# EAGLE library part MIKRO_SD_CARD (library Parts_for_Marcus)
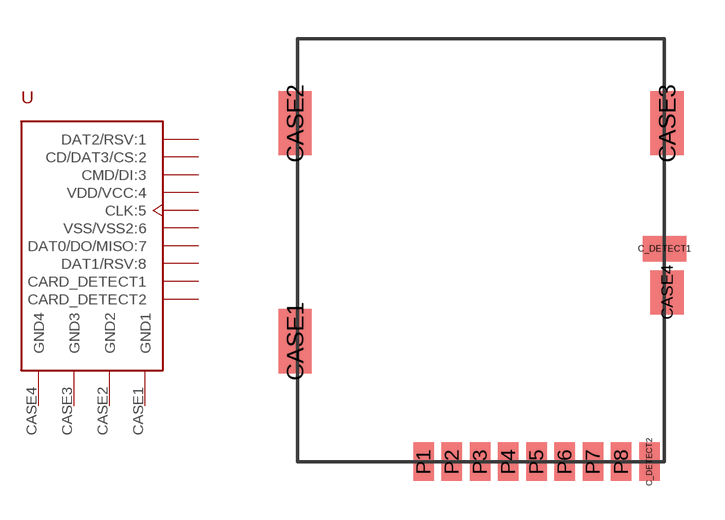
[diagram p0: symbol with the pads of MIKRO_SD_CARD_HOLDER; footprint MIKRO_SD_CARD_HOLDER]

Designator prefix -

## MIKRO_SD_CARD  [MIKRO_SD_CARD_HOLDER]
C_DETECT1  CARD_DETECT1
C_DETECT2  CARD_DETECT2
CASE1  GND1
CASE2  GND2
CASE3  GND3
CASE4  GND4
P1  DAT2/RSV:1
P2  CD/DAT3/CS:2
P3  CMD/DI:3  pwr
P4  VDD/VCC:4  pwr
P5  CLK:5
P6  VSS/VSS2:6  pwr
P7  DAT0/DO/MISO:7
P8  DAT1/RSV:8

## Footprint MIKRO_SD_CARD_HOLDER (pad centres in mm)
smd 1.7 x 1: C_DETECT1 14.3,8.3
smd 0.8 x 1.5: C_DETECT2 13.71,0; P1 4.91,0; P2 6.01,0; P3 7.11,0; P4 8.21,0; P5 9.31,0; P6 10.41,0; P7 11.51,0; P8 12.61,0
smd 1.3 x 2.5: CASE1 -0.1,4.7; CASE2 -0.1,13.2; CASE3 14.4,13.2
smd 1.3 x 1.7: CASE4 14.4,6.6